# Altium footprint library SMAW.PcbLib: 1 footprints
Each footprint in its own frame and in the unit in brackets; x right, y up, seen from the top. Pads: shape width x height; smd on the part's side, far side on the other; paste and mask are expansions set on the pad; w line width, h text height; cw(c..) or ccw(c..) is an arc to the next point about the centre after c.
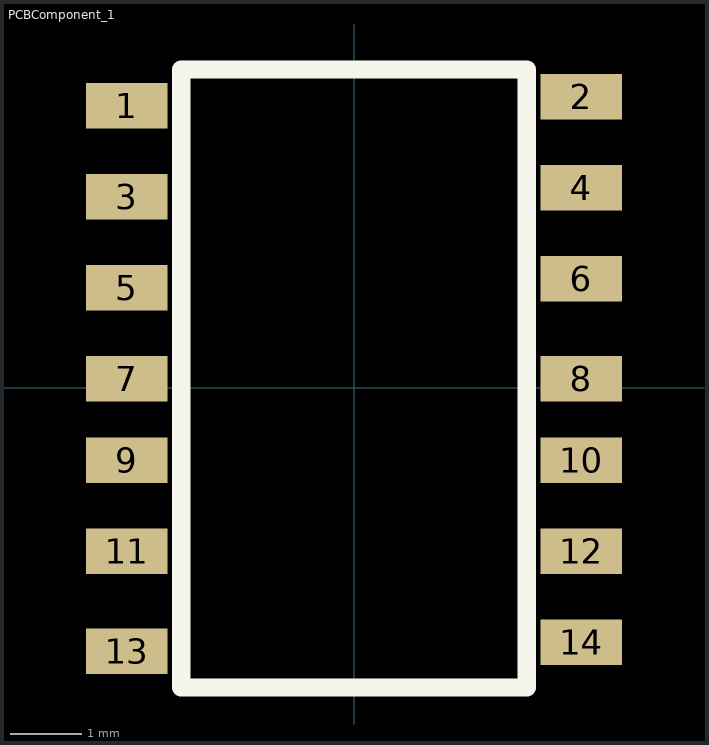
[diagram p0: the footprint, top view; thin cyan lines are the x and y axes]

## PCBComponent_1 [mil]
pads (14):
  rect 45x25 smd: 1(-125,155) 2(125,160) 3(-125,105) 4(125,110) 5(-125,55) 6(125,60) 7(-125,5) 8(125,5) 9(-125,-40) 10(125,-40) 11(-125,-90) 12(125,-90) 13(-125,-145) 14(125,-140)
Top Overlay:
  lines w10: -95,-165 95,-165 95,175 -95,175 -95,-165